# Altium footprint library FX10A-120S12.PcbLib: 1 footprints
Each footprint in its own frame and in the unit in brackets; x right, y up, seen from the top. Pads: shape width x height; smd on the part's side, far side on the other; paste and mask are expansions set on the pad; w line width, h text height; cw(c..) or ccw(c..) is an arc to the next point about the centre after c.
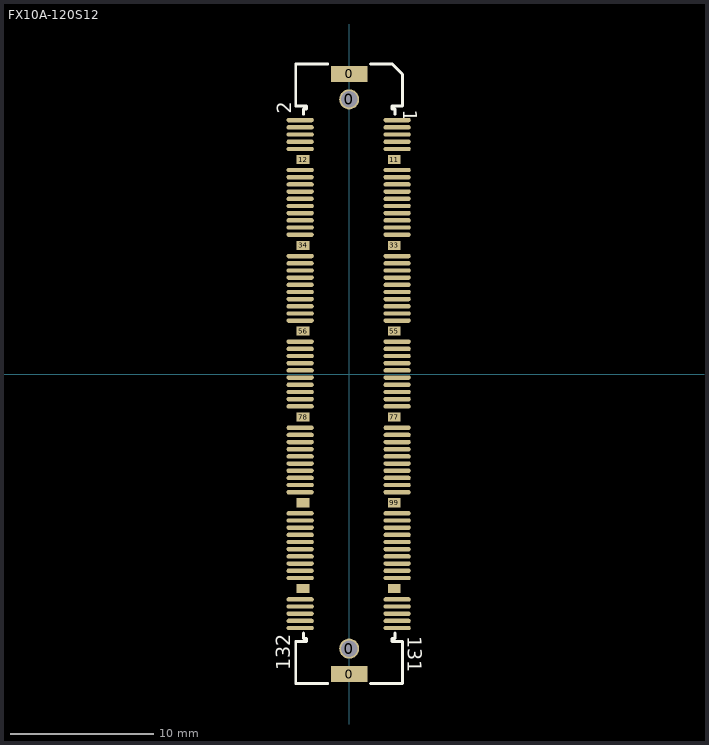
[diagram p0: the footprint, top view; thin cyan lines are the x and y axes]

## FX10A-120S12 [mil]
pads (136):
  rect 100x45 smd: 0(0,-826) 0(0,826)
  round 55 hole 45: 0(0,-756) 0(0,756)
  oval 75x12 smd: 1(132,699) 2(-135,699) 3(132,679.12) 4(-135,679.12) 5(132,659.25) 6(-135,659.25) 7(132,639.38) 8(-135,639.38) 9(132,619.5) 10(-135,619.5) 13(132,561.5) 14(-135,561.5) 15(132,541.72) 16(-135,541.72) 17(132,521.94) 18(-135,521.94) 19(132,502.17) 20(-135,502.17) 21(132,482.39) 22(-135,482.39) 23(132,462.61) 24(-135,462.61) 25(132,442.83) 26(-135,442.83) 27(132,423.06) 28(-135,423.06) 29(132,403.28) 30(-135,403.28) 31(132,383.5) 32(-135,383.5) 35(132,324.5) 36(-135,324.5) 37(132,304.78) 38(-135,304.78) 39(132,285.06) 40(-135,285.06) 41(132,265.33) 42(-135,265.33) 43(132,245.61) 44(-135,245.61) 45(132,225.89) 46(-135,225.89) 47(132,206.17) 48(-135,206.17) 49(132,186.44) 50(-135,186.44) 51(132,166.72) 52(-135,166.72) 53(132,147) 54(-135,147) 57(132,89) 58(-135,89) 59(132,69.22) 60(-135,69.22) 61(132,49.45) 62(-135,49.45) 63(132,29.67) 64(-135,29.67) 65(132,9.89) 66(-135,9.89) 67(132,-9.89) 68(-135,-9.89) 69(132,-29.67) 70(-135,-29.67) 71(132,-49.44) 72(-135,-49.44) 73(132,-69.22) 74(-135,-69.22) 75(132,-89) 76(-135,-89) 79(132,-148) 80(-135,-148) 81(132,-167.72) 82(-135,-167.72) 83(132,-187.44) 84(-135,-187.44) 85(132,-207.17) 86(-135,-207.17) 87(132,-226.89) 88(-135,-226.89) 89(132,-246.61) 90(-135,-246.61) 91(132,-266.33) 92(-135,-266.33) 93(132,-286.06) 94(-135,-286.06) 95(132,-305.78) 96(-135,-305.78) 97(132,-325.5) 98(-135,-325.5) 101(132,-383.5) 102(-135,-383.5) 103(132,-403.28) 104(-135,-403.28) 105(132,-423.05) 106(-135,-423.05) 107(132,-442.83) 108(-135,-442.83) 109(132,-462.61) 110(-135,-462.61) 111(132,-482.39) 112(-135,-482.39) 113(132,-502.17) 114(-135,-502.17) 115(132,-521.94) 116(-135,-521.94) 117(132,-541.72) 118(-135,-541.72) 119(132,-561.5) 120(-135,-561.5) 123(132,-620.5) 124(-135,-620.5) 125(132,-640.22) 126(-135,-640.22) 127(132,-659.94) 128(-135,-659.94) 129(132,-679.67) 130(-135,-679.67) 131(132,-699.39) 132(-135,-699.39)
  rect 35x25 smd: 11(124,590.5) 12(-127,590.5) 33(124,354) 34(-127,354) 55(124,118) 56(-127,118) 77(124,-118.5) 78(-127,-118.5) 99(124,-354.5) 100(-127,-354.5) 121(124,-591) 122(-127,-591)
Top Overlay:
  lines w8: -126,-713 -126,-724 -126,-728 -118,-728 -118,-736 -147,-736 -147,-852 -59,-852 ; -126,715 -126,726 -126,730 -118,730 -118,738 -147,738 -147,854 -59,854 ; 59,-852 147,-852 147,-736 118,-736 118,-728 126,-728 126,-724 126,-713 ; 59,854 118,854 147,825 147,738 118,738 118,730 126,730 126,726 126,715
  text "1" at 149,727 h38
  text "131" at 161,-722 h38
  text "132" at -162,-816 h38
  text "2" at -159,717 h38
3D body: height 126.24, standoff -23.36, extent -143.7,-848 143.7,848.85